# Altium schematic symbol library TRIACs - Thyristors.SchLib: 1 symbol
Pins are listed as number, name and electrical type; pins without a type are passive.

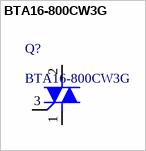
[diagram p0: symbol BTA16-800CW3G]

## BTA16-800CW3G
designator Q?
TRIAC 800V 16A TO220AB; Manufacturer: ON Semiconductor; Triac Type: Standard; Voltage - Gate Trigger (Vgt) (Max): 1.1V; Current - Non Rep. Surge 50, 60Hz (Itsm): 170A @ 60Hz; Current - Gate Trigger (Igt) (Max): 35mA; Current - Hold (Ih) (Max): 50mA; Configuration: Single; Supplier 1: Digi-Key; Supplier Part Number 1: BTA16-800CW3GOS-ND; Manufacturer Part Number: BTA16-800CW3G; RoHS: RoHS Compliant; Category: Discrete Semiconductor Products; Stock 1: 961; Pricing 1: 1=1.37, 10=1.221, 100=0.9522, 500=0.7866, 1000=0.621 (USD); Packaging: Tube; Part Status: Active; Voltage - Off State: 800V; Current - On State (It (RMS)) (Max): 16A; Operating Temperature: -40°C ~ 125°C (TJ); Mounting Type: Through Hole; Package / Case: TO-220-3; Supplier Device Package: TO-220AB; ComponentLink1URL: http://media.digikey.com/pdf/Data%20Sheets/ON%20Semiconductor%20PDFs/BTA16-600_800CW3G.pdf; ComponentLink1Description: http://media.digikey.com/pdf/Data%20Sheets/ON%20Semiconductor%20PDFs/BTA16-600_800CW3G.pdf; Supplier 2: Mouser; Supplier Part Number 2: 863-BTA16-800CW3G
footprint TO-220AB
footprint TO-220AB flat
pins: 1 T1, 2 T2, 3 G